# Altium schematic symbol library 3W_1.75K.SchLib: 1 symbol
Pins are listed as number, name and electrical type; pins without a type are passive.

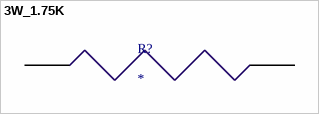
[diagram p0: symbol 3W_1.75K]

## 3W_1.75K
designator R?
footprint 3W_1.75K
pins: 0, 1